# EAGLE library part LIS3DSH (library Sensors)
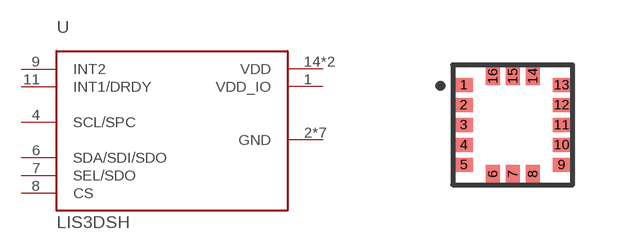
[diagram p0: symbol with the pads of LGA-16-3X3X1; footprint LGA-16-3X3X1]

Designator prefix -

## LIS3DSH  [LGA-16-3X3X1]
1  VDD_IO
2  GND
3  GND
4  SCL/SPC
5  GND
6  SDA/SDI/SDO
7  SEL/SDO
8  CS
9  INT2
10  GND
11  INT1/DRDY
12  GND
13  GND
14  VDD
15  VDD
16  GND

## Footprint LGA-16-3X3X1 (pad centres in mm)
smd 0.45 x 0.35: 1 0.275,2.5; 2 0.275,2; 3 0.275,1.5; 4 0.275,1; 5 0.275,0.5; 9 2.725,0.5; 10 2.725,1; 11 2.725,1.5; 12 2.725,2; 13 2.725,2.5
smd 0.35 x 0.45: 6 1,0.275; 7 1.5,0.275; 8 2,0.275; 14 2,2.725; 15 1.5,2.725; 16 1,2.725